# Altium schematic symbol library AD.SchLib: 5 symbols
Pins are listed as number, name and electrical type; pins without a type are passive.

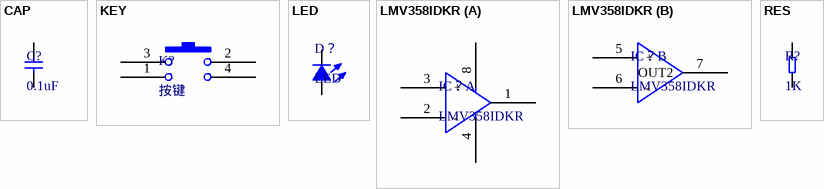
[diagram p0: symbols CAP to RES]

## CAP
designator C?, comment 0.1uF
电容
footprint 0603C (Footprint not found)
pins: 1, 2

## KEY
designator K?, comment 按键
footprint KEY4 (Footprint not found)
pins: 1, 2, 3, 4

## LED
designator D？
footprint 0603D (Footprint not found)
pins: A, K

## LMV358IDKR
designator IC？
footprint TSSOP8 (Footprint not found)
part A pins: 1 OUT1, 2 -, 3 +, 4 GND, 8 VCC
part B pins: 5 +, 6 -, 7 OUT2

## RES
designator R?, comment 1K
5%精度
footprint 0603R (Footprint not found)
pins: 1, 2